# Altium footprint library AD9851BRS.PcbLib: 3 footprints
Each footprint in its own frame and in the unit in brackets; x right, y up, seen from the top. Pads: shape width x height; smd on the part's side, far side on the other; paste and mask are expansions set on the pad; w line width, h text height; cw(c..) or ccw(c..) is an arc to the next point about the centre after c.
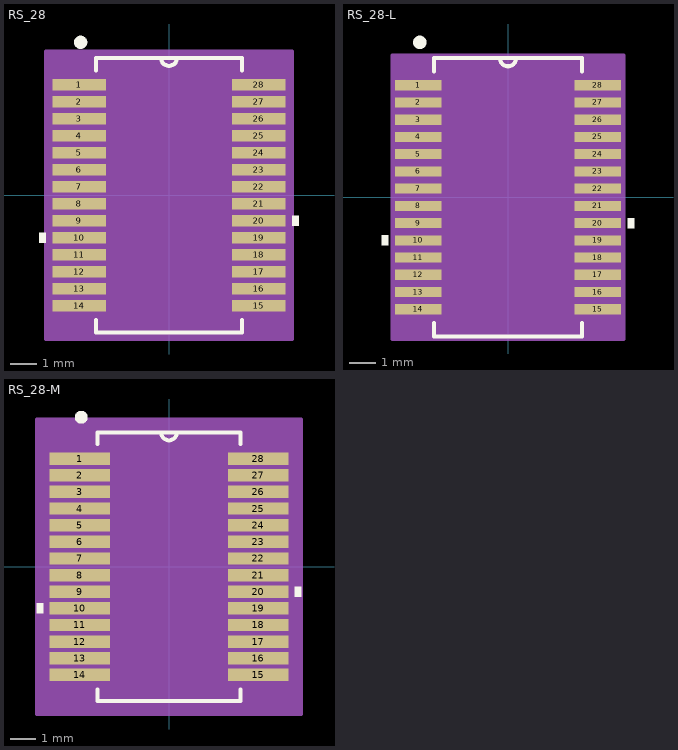
[diagram p0: the footprints below, top view; thin cyan lines are the x and y axes]

## RS_28 [mil]
pads (28):
  rect 81x17 smd mask+4: 1(-135,166.34) 2(-135,140.75) 3(-135,115.16) 4(-135,89.57) 5(-135,63.98) 6(-135,38.39) 7(-135,12.8) 8(-135,-12.8) 9(-135,-38.39) 10(-135,-63.98) 11(-135,-89.57) 12(-135,-115.16) 13(-135,-140.75) 14(-135,-166.34) 15(135,-166.34) 16(135,-140.75) 17(135,-115.16) 18(135,-89.57) 19(135,-63.98) 20(135,-38.39) 21(135,-12.8) 22(135,12.8) 23(135,38.39) 24(135,63.98) 25(135,89.57) 26(135,115.16) 27(135,140.75) 28(135,166.34)
Top Overlay:
  circle w10: c-133,230 r5
  region: -185.5,-56.48 -195.5,-56.48 -195.5,-71.48 -185.5,-71.48
  region: 185.5,-30.89 195.5,-30.89 195.5,-45.89 185.5,-45.89
  lines w6: -110,-187.94 -110,-206.5 110,-206.5 110,-187.94 ; -110,187.94 -110,206.5 110,206.5 110,187.94 ; -12,206.5 ccw(c0,206.5) 12,206.5
Mechanical 13:
  lines w0: -12,206.5 ccw(c0,206.5) 12,206.5
Mechanical 15:
  region: 185.5,-216.5 -185.5,-216.5 -185.5,216.5 185.5,216.5
  lines w6: -185.5,-216.5 -185.5,216.5 185.5,216.5 185.5,-216.5 -185.5,-216.5
3D body: height 79.01, standoff 0, extent -161.5,-206.5 161.5,206.5

## RS_28-L [mil]
pads (28):
  rect 69x15 smd mask+4: 1(-133,166.34) 2(-133,140.75) 3(-133,115.16) 4(-133,89.57) 5(-133,63.98) 6(-133,38.39) 7(-133,12.8) 8(-133,-12.8) 9(-133,-38.39) 10(-133,-63.98) 11(-133,-89.57) 12(-133,-115.16) 13(-133,-140.75) 14(-133,-166.34) 15(133,-166.34) 16(133,-140.75) 17(133,-115.16) 18(133,-89.57) 19(133,-63.98) 20(133,-38.39) 21(133,-12.8) 22(133,12.8) 23(133,38.39) 24(133,63.98) 25(133,89.57) 26(133,115.16) 27(133,140.75) 28(133,166.34)
Top Overlay:
  circle w10: c-131,230 r5
  region: 177.5,-30.89 187.5,-30.89 187.5,-45.89 177.5,-45.89
  region: -177.5,-56.48 -187.5,-56.48 -187.5,-71.48 -177.5,-71.48
  lines w6: -110,-186.94 -110,-206.5 110,-206.5 110,-186.94 ; -110,186.94 -110,206.5 110,206.5 110,186.94 ; -12,206.5 ccw(c0,206.5) 12,206.5
Mechanical 13:
  lines w0: -12,206.5 ccw(c0,206.5) 12,206.5
Mechanical 15:
  region: 171.5,-210.5 -171.5,-210.5 -171.5,210.5 171.5,210.5
  lines w6: -171.5,-210.5 171.5,-210.5 171.5,210.5 -171.5,210.5 -171.5,-210.5
3D body: height 79.01, standoff 0, extent -161.49,-206.49 161.51,206.51

## RS_28-M [mil]
pads (28):
  rect 93x19 smd mask+4: 1(-137,166.34) 2(-137,140.75) 3(-137,115.16) 4(-137,89.57) 5(-137,63.98) 6(-137,38.39) 7(-137,12.8) 8(-137,-12.8) 9(-137,-38.39) 10(-137,-63.98) 11(-137,-89.57) 12(-137,-115.16) 13(-137,-140.75) 14(-137,-166.34) 15(137,-166.34) 16(137,-140.75) 17(137,-115.16) 18(137,-89.57) 19(137,-63.98) 20(137,-38.39) 21(137,-12.8) 22(137,12.8) 23(137,38.39) 24(137,63.98) 25(137,89.57) 26(137,115.16) 27(137,140.75) 28(137,166.34)
Top Overlay:
  circle w10: c-135,230 r5
  region: -193.5,-56.48 -203.5,-56.48 -203.5,-71.48 -193.5,-71.48
  region: 193.5,-30.89 203.5,-30.89 203.5,-45.89 193.5,-45.89
  lines w6: -110,-188.94 -110,-206.5 110,-206.5 110,-188.94 ; -110,188.94 -110,206.5 110,206.5 110,188.94 ; -12,206.5 ccw(c0,206.5) 12,206.5
Mechanical 13:
  lines w0: -12,206.5 ccw(c0,206.5) 12,206.5
Mechanical 15:
  region: 203.5,-226.5 -203.5,-226.5 -203.5,226.5 203.5,226.5
  lines w6: -203.5,-226.5 -203.5,226.5 203.5,226.5 203.5,-226.5 -203.5,-226.5
3D body: height 79.01, standoff 0, extent -161.49,-206.49 161.51,206.51